# Altium footprint library Jump_2.0.PcbLib: 37 footprints (part 3 of 3)
Each footprint in its own frame and in the unit in brackets; x right, y up, seen from the top. Pads: shape width x height; smd on the part's side, far side on the other; paste and mask are expansions set on the pad; w line width, h text height; cw(c..) or ccw(c..) is an arc to the next point about the centre after c.
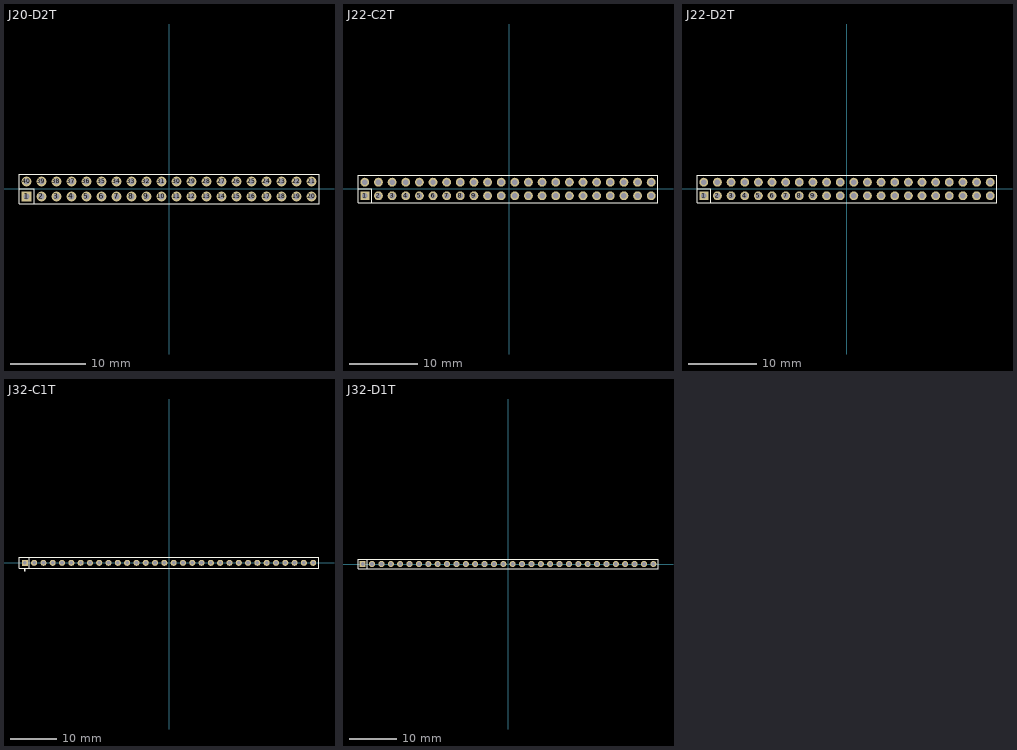
[diagram p2: the footprints below, top view; thin cyan lines are the x and y axes]

## J20-D2T [mm] "40 pins, dual row, straight, gold plating"
height 6
pads (40):
  rect 1.3x1.3 hole 0.8: 1(-19,-1)
  round 1.3 hole 0.8: 2(-17,-1) 3(-15,-1) 4(-13,-1) 5(-11,-1) 6(-9,-1) 7(-7,-1) 8(-5,-1) 9(-3,-1) 10(-1,-1) 11(1,-1) 12(3,-1) 13(5,-1) 14(7,-1) 15(9,-1) 16(11,-1) 17(13,-1) 18(15,-1) 19(17,-1) 20(19,-1) 21(19,1) 22(17,1) 23(15,1) 24(13,1) 25(11,1) 26(9,1) 27(7,1) 28(5,1) 29(3,1) 30(1,1) 31(-1,1) 32(-3,1) 33(-5,1) 34(-7,1) 35(-9,1) 36(-11,1) 37(-13,1) 38(-15,1) 39(-17,1) 40(-19,1)
Top Overlay:
  lines w0.127: -20,0 -18,0 -18,-2 ; -20,-2 20,-2 20,2 -20,2 -20,-2
3D body "62004021121.stp": height 6.01, standoff -2.79, extent -20,-2 20,2

## J22-C2T [mm] "44 pins, dual row, straight, gold plating"
height 4.3
pads (44):
  rect 1.3x1.3 hole 0.8: 1(-21.209,-1.016)
  round 1.3 hole 0.8: 2(-19.209,-1.016) 3(-17.209,-1.016) 4(-15.209,-1.016) 5(-13.209,-1.016) 6(-11.209,-1.016) 7(-9.209,-1.016) 8(-7.209,-1.016) 9(-5.209,-1.016) 10(-3.209,-1.016) 11(-1.209,-1.016) 12(0.791,-1.016) 13(2.791,-1.016) 14(4.791,-1.016) 15(6.791,-1.016) 16(8.791,-1.016) 17(10.791,-1.016) 18(12.791,-1.016) 19(14.791,-1.016) 20(16.791,-1.016) 21(18.791,-1.016) 22(20.791,-1.016) 23(20.791,0.984) 24(18.791,0.984) 25(16.791,0.984) 26(14.791,0.984) 27(12.791,0.984) 28(10.791,0.984) 29(8.791,0.984) 30(6.791,0.984) 31(4.791,0.984) 32(2.791,0.984) 33(0.791,0.984) 34(-1.209,0.984) 35(-3.209,0.984) 36(-5.209,0.984) 37(-7.209,0.984) 38(-9.209,0.984) 39(-11.209,0.984) 40(-13.209,0.984) 41(-15.209,0.984) 42(-17.209,0.984) 43(-19.209,0.984) 44(-21.209,0.984)
Top Overlay:
  lines w0.127: -22.209,-0.016 -20.209,-0.016 -20.209,-2.016 ; -22.209,-2.016 -22.209,1.984 21.791,1.984 21.791,-2.016 -22.209,-2.016
3D body "62004421821.stp": height 4.31, standoff -2.39, extent -22.479,-2 22.021,2

## J22-D2T [mm] "44pins, dual row, straight, gold plating"
height 6
pads (44):
  rect 1.3x1.3 hole 0.8: 1(-21,-1)
  round 1.3 hole 0.8: 2(-19,-1) 3(-17,-1) 4(-15,-1) 5(-13,-1) 6(-11,-1) 7(-9,-1) 8(-7,-1) 9(-5,-1) 10(-3,-1) 11(-1,-1) 12(1,-1) 13(3,-1) 14(5,-1) 15(7,-1) 16(9,-1) 17(11,-1) 18(13,-1) 19(15,-1) 20(17,-1) 21(19,-1) 22(21,-1) 23(21,1) 24(19,1) 25(17,1) 26(15,1) 27(13,1) 28(11,1) 29(9,1) 30(7,1) 31(5,1) 32(3,1) 33(1,1) 34(-1,1) 35(-3,1) 36(-5,1) 37(-7,1) 38(-9,1) 39(-11,1) 40(-13,1) 41(-15,1) 42(-17,1) 43(-19,1) 44(-21,1)
Top Overlay:
  lines w0.127: -22,0 -20,0 -20,-2 ; -22,-2 22,-2 22,2 -22,2 -22,-2
3D body "62004421121.stp": height 6.01, standoff -2.79, extent -22,-2 22,2

## J32-C1T [mm] "32p, 1 row, straight, gold plating"
height 4.3
pads (32):
  rect 1.3x1.3 hole 0.8: 1(-31,0)
  round 1.3 hole 0.8: 2(-29,0) 3(-27,0) 4(-25,0) 5(-23,0) 6(-21,0) 7(-19,0) 8(-17,0) 9(-15,0) 10(-13,0) 11(-11,0) 12(-9,0) 13(-7,0) 14(-5,0) 15(-3,0) 16(-1,0) 17(1,0) 18(3,0) 19(5,0) 20(7,0) 21(9,0) 22(11,0) 23(13,0) 24(15,0) 25(17,0) 26(19,0) 27(21,0) 28(23,0) 29(25,0) 30(27,0) 31(29,0) 32(31,0)
Top Overlay:
  circle w0.25: c-31,-1.582 r0.125
  lines w0.127: -30,-1.2 -30,1.2 ; -32.25,-1.2 -32.25,1.2 32.25,1.2 32.25,-1.2 -32.25,-1.2
3D body "62003211821.stp": height 4.31, standoff -2.39, extent -32.25,-1.2 32.25,1.2

## J32-D1T [mm] "32 pins, 1 row, straight, gold plating"
height 6
pads (32):
  rect 1.3x1.3 hole 0.8: 1(-31,0)
  round 1.3 hole 0.8: 2(-29,0) 3(-27,0) 4(-25,0) 5(-23,0) 6(-21,0) 7(-19,0) 8(-17,0) 9(-15,0) 10(-13,0) 11(-11,0) 12(-9,0) 13(-7,0) 14(-5,0) 15(-3,0) 16(-1,0) 17(1,0) 18(3,0) 19(5,0) 20(7,0) 21(9,0) 22(11,0) 23(13,0) 24(15,0) 25(17,0) 26(19,0) 27(21,0) 28(23,0) 29(25,0) 30(27,0) 31(29,0) 32(31,0)
Top Overlay:
  lines w0.2: -30,-1 -30,1 ; -32,-1 32,-1 32,1 -32,1 -32,-1
3D body "62003211121.stp": height 6.01, standoff -2.79, extent -32,-1 32,1